# Altium schematic symbol library Schlib1.SchLib: 9 symbols
Pins are listed as number, name and electrical type; pins without a type are passive.

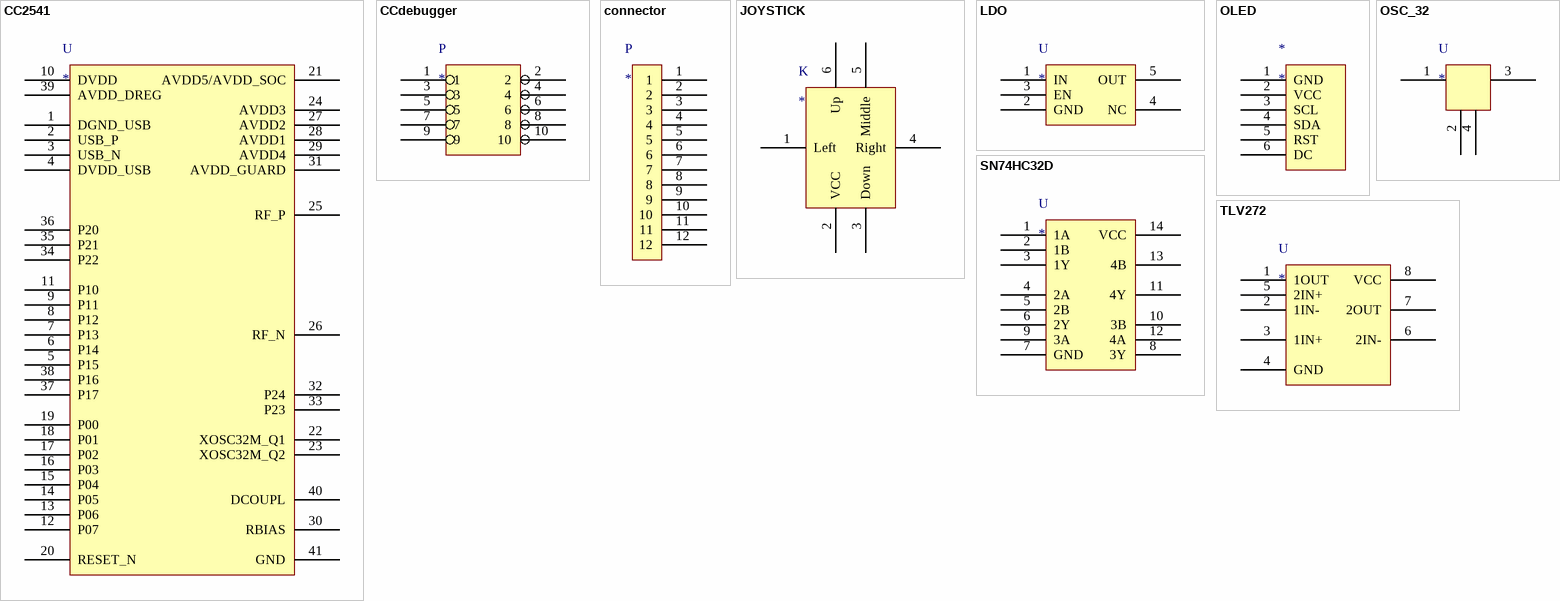
[diagram p0: symbols CC2541 to TLV272]

## CC2541
designator U
footprint CC254x_QFN
pins: 1 DGND_USB, 2 USB_P, 3 USB_N, 4 DVDD_USB, 5 P15, 6 P14, 7 P13, 8 P12, 9 P11, 10 DVDD, 11 P10, 12 P07, 13 P06, 14 P05, 15 P04, 16 P03, 17 P02, 18 P01, 19 P00, 20 RESET_N, 21 AVDD5/AVDD_SOC, 22 XOSC32M_Q1, 23 XOSC32M_Q2, 24 AVDD3, 25 RF_P, 26 RF_N, 27 AVDD2, 28 AVDD1, 29 AVDD4, 30 RBIAS, 31 AVDD_GUARD, 32 P24, 33 P23, 34 P22, 35 P21, 36 P20, 37 P17, 38 P16, 39 AVDD_DREG, 40 DCOUPL, 41 GND

## CCdebugger
designator P
footprint M-IDC10
pins: 1, 2, 3, 4, 5, 6, 7, 8, 9, 10

## connector
designator P
pins: 1, 2, 3, 4, 5, 6, 7, 8, 9, 10, 11, 12

## JOYSTICK
designator K
pins: 1 Left, 2 VCC, 3 Down, 4 Right, 5 Middle, 6 Up

## LDO
designator U
pins: 1 IN, 2 GND, 3 EN, 4 NC, 5 OUT

## OLED
designator *
footprint M-SIP6
pins: 1 GND, 2 VCC, 3 SCL, 4 SDA, 5 RST, 6 DC

## OSC_32
designator U
pins: 1, 2, 3, 4

## SN74HC32D
designator U
footprint SOIC14
pins: 1 1A, 2 1B, 3 1Y, 4 2A, 5 2B, 6 2Y, 7 GND, 8 3Y, 9 3A, 10 3B, 11 4Y, 12 4A, 13 4B, 14 VCC

## TLV272
designator U
footprint SOIC8
pins: 1 1OUT, 2 1IN-, 3 1IN+, 4 GND, 5 2IN+, 6 2IN-, 7 2OUT, 8 VCC